# Altium footprint library Wurth PSLP 331-010.PcbLib: 1 footprints
Each footprint in its own frame and in the unit in brackets; x right, y up, seen from the top. Pads: shape width x height; smd on the part's side, far side on the other; paste and mask are expansions set on the pad; w line width, h text height; cw(c..) or ccw(c..) is an arc to the next point about the centre after c.
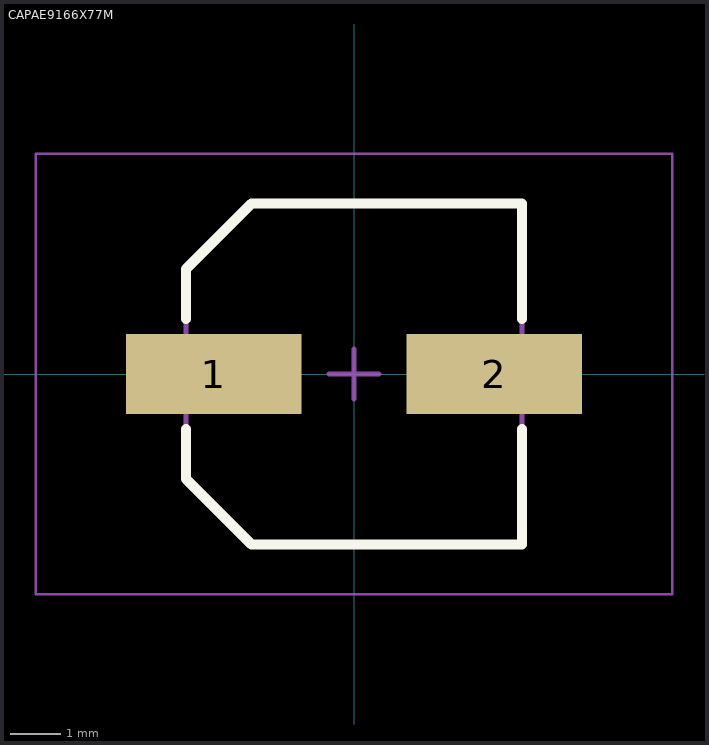
[diagram p0: the footprint, top view; thin cyan lines are the x and y axes]

## CAPAE9166X77M [mm] "Aluminum Electrolytic Capacitor, Body 6,60x6,60x7,70mm, IPC Low Density"
height 7.7
pads (2):
  rect 3.5x1.6 smd: 1(-2.8,0) 2(2.8,0)
Top Overlay:
  lines w0.2: -3.35,-1.1 -3.35,-2.1 -2.05,-3.4 3.35,-3.4 3.35,-1.1 ; -3.35,1.1 -3.35,2.1 -2.05,3.4 3.35,3.4 3.35,1.1
Mechanical 13:
  lines w0.1: -3.35,-2.1 -3.35,2.1 -2.05,3.4 3.35,3.4 3.35,-3.4 -2.05,-3.4 -3.35,-2.1
Mechanical 15:
  lines w0.05: -6.35,-4.4 6.35,-4.4 6.35,4.4 -6.35,4.4 -6.35,-4.4
  lines w0.1: -0.5,0 0.5,0 ; 0,-0.5 0,0.5
3D body: height 7.7, standoff 0, extent -3.4,-3.4 3.4,3.4
3D body: height 2.57, standoff 0, extent -3.35,-3.4 3.35,3.4